# Altium schematic symbol library SCH - MCU - NUVOTON - NUVOTON M251FB2AE.SchLib: 1 symbol
Pins are listed as number, name and electrical type; pins without a type are passive.

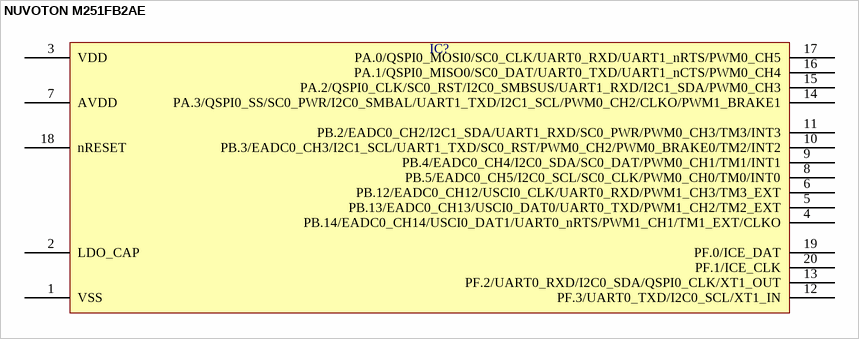
[diagram p0: symbol NUVOTON M251FB2AE]

## NUVOTON M251FB2AE
designator IC?  (value not drawn)
pins: 1 VSS, 2 LDO_CAP, 3 VDD, 4 PB.14/EADC0_CH14/USCI0_DAT1/UART0_nRTS/PWM1_CH1/TM1_EXT/CLKO, 5 PB.13/EADC0_CH13/USCI0_DAT0/UART0_TXD/PWM1_CH2/TM2_EXT, 6 PB.12/EADC0_CH12/USCI0_CLK/UART0_RXD/PWM1_CH3/TM3_EXT, 7 AVDD, 8 PB.5/EADC0_CH5/I2C0_SCL/SC0_CLK/PWM0_CH0/TM0/INT0, 9 PB.4/EADC0_CH4/I2C0_SDA/SC0_DAT/PWM0_CH1/TM1/INT1, 10 PB.3/EADC0_CH3/I2C1_SCL/UART1_TXD/SC0_RST/PWM0_CH2/PWM0_BRAKE0/TM2/INT2, 11 PB.2/EADC0_CH2/I2C1_SDA/UART1_RXD/SC0_PWR/PWM0_CH3/TM3/INT3, 12 PF.3/UART0_TXD/I2C0_SCL/XT1_IN, 13 PF.2/UART0_RXD/I2C0_SDA/QSPI0_CLK/XT1_OUT, 14 PA.3/QSPI0_SS/SC0_PWR/I2C0_SMBAL/UART1_TXD/I2C1_SCL/PWM0_CH2/CLKO/PWM1_BRAKE1, 15 PA.2/QSPI0_CLK/SC0_RST/I2C0_SMBSUS/UART1_RXD/I2C1_SDA/PWM0_CH3, 16 PA.1/QSPI0_MISO0/SC0_DAT/UART0_TXD/UART1_nCTS/PWM0_CH4, 17 PA.0/QSPI0_MOSI0/SC0_CLK/UART0_RXD/UART1_nRTS/PWM0_CH5, 18 nRESET, 19 PF.0/ICE_DAT, 20 PF.1/ICE_CLK